# EAGLE library part LM3150 (library avc)
Simple Switcher Controller 42V Synchronous Step-Down
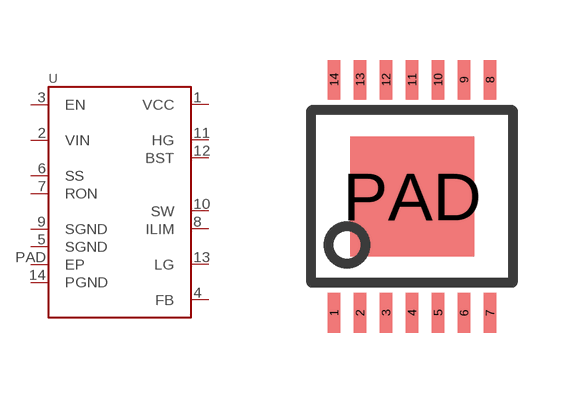
[diagram p3: symbol with the pads of TSSOP14EXP; footprint TSSOP14EXP]

Designator prefix U

## LM3150 (ACRONAME: -; PARTNUM: LM3150)  [TSSOP14EXP]
1  VCC
2  VIN
3  EN
4  FB
5  SGND
6  SS
7  RON
8  ILIM
9  SGND
10  SW
11  HG
12  BST
13  LG
14  PGND
PAD  EP

## Footprint TSSOP14EXP (pad centres in mm)
Thin Shrink Small Outline Plastic 14 MAX3223-MAX3243.pdf
smd 0.305 x 0.991: 1 -1.95,-2.918; 2 -1.3,-2.918; 3 -0.65,-2.918; 4 0,-2.918; 5 0.65,-2.918; 6 1.3,-2.918; 7 1.95,-2.918; 8 1.95,2.918; 9 1.3,2.918; 10 0.65,2.918; 11 0,2.918; 12 -0.65,2.918; 13 -1.3,2.918; 14 -1.95,2.918
smd 3.1 x 3: PAD 0,0